# Altium schematic symbol library Schlib.SchLib: 5 symbols
Pins are listed as number, name and electrical type; pins without a type are passive.

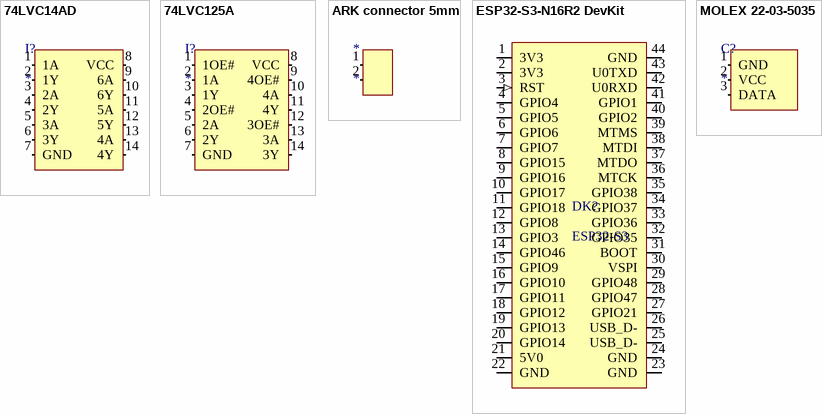
[diagram p0: symbols 74LVC14AD to MOLEX 22-03-5035]

## 74LVC14AD
designator I?
footprint SOP14
pins: 1 1A, 2 1Y, 3 2A, 4 2Y, 5 3A, 6 3Y, 7 GND (power), 8 VCC, 9 6A, 10 6Y, 11 5A, 12 5Y, 13 4A, 14 4Y (power)

## 74LVC125A
designator I?
footprint SOP14
pins: 1 1OE#, 2 1A, 3 1Y, 4 2OE#, 5 2A, 6 2Y, 7 GND (power), 8 VCC, 9 4OE#, 10 4A, 11 4Y, 12 3OE#, 13 3A, 14 3Y (power)

## ARK connector 5mm
designator *
footprint ARK connector footprint
pins: 1 (power), 2 (power)

## ESP32-S3-N16R2 DevKit
designator DK?, comment ESP32-S3
footprint ESP32-S3-DevKit footprint
pins: 1 3V3 (power), 2 3V3 (power), 3 RST (in), 4 GPIO4 (io), 5 GPIO5 (io), 6 GPIO6 (io), 7 GPIO7 (io), 8 GPIO15 (io), 9 GPIO16 (io), 10 GPIO17 (io), 11 GPIO18 (io), 12 GPIO8 (io), 13 GPIO3 (io), 14 GPIO46 (io), 15 GPIO9 (io), 16 GPIO10 (io), 17 GPIO11 (io), 18 GPIO12 (io), 19 GPIO13 (io), 20 GPIO14 (io), 21 5V0 (power), 22 GND (power), 23 GND (power), 24 GND (power), 25 USB_D- (io), 26 USB_D- (io), 27 GPIO21 (io), 28 GPIO47 (io), 29 GPIO48 (io), 30 VSPI (io), 31 BOOT (io), 32 GPIO35 (io), 33 GPIO36 (io), 34 GPIO37 (io), 35 GPIO38 (io), 36 MTCK (io), 37 MTDO (io), 38 MTDI (io), 39 MTMS (io), 40 GPIO2 (io), 41 GPIO1 (io), 42 U0RXD (io), 43 U0TXD (io), 44 GND (power)

## MOLEX 22-03-5035
designator C?
footprint PCBComponent_1
pins: 1 GND (power), 2 VCC (power), 3 DATA